# Altium footprint library EceParts.PcbLib: 92 footprints (part 4 of 6)
Each footprint in its own frame and in the unit in brackets; x right, y up, seen from the top. Pads: shape width x height; smd on the part's side, far side on the other; paste and mask are expansions set on the pad; w line width, h text height; cw(c..) or ccw(c..) is an arc to the next point about the centre after c.
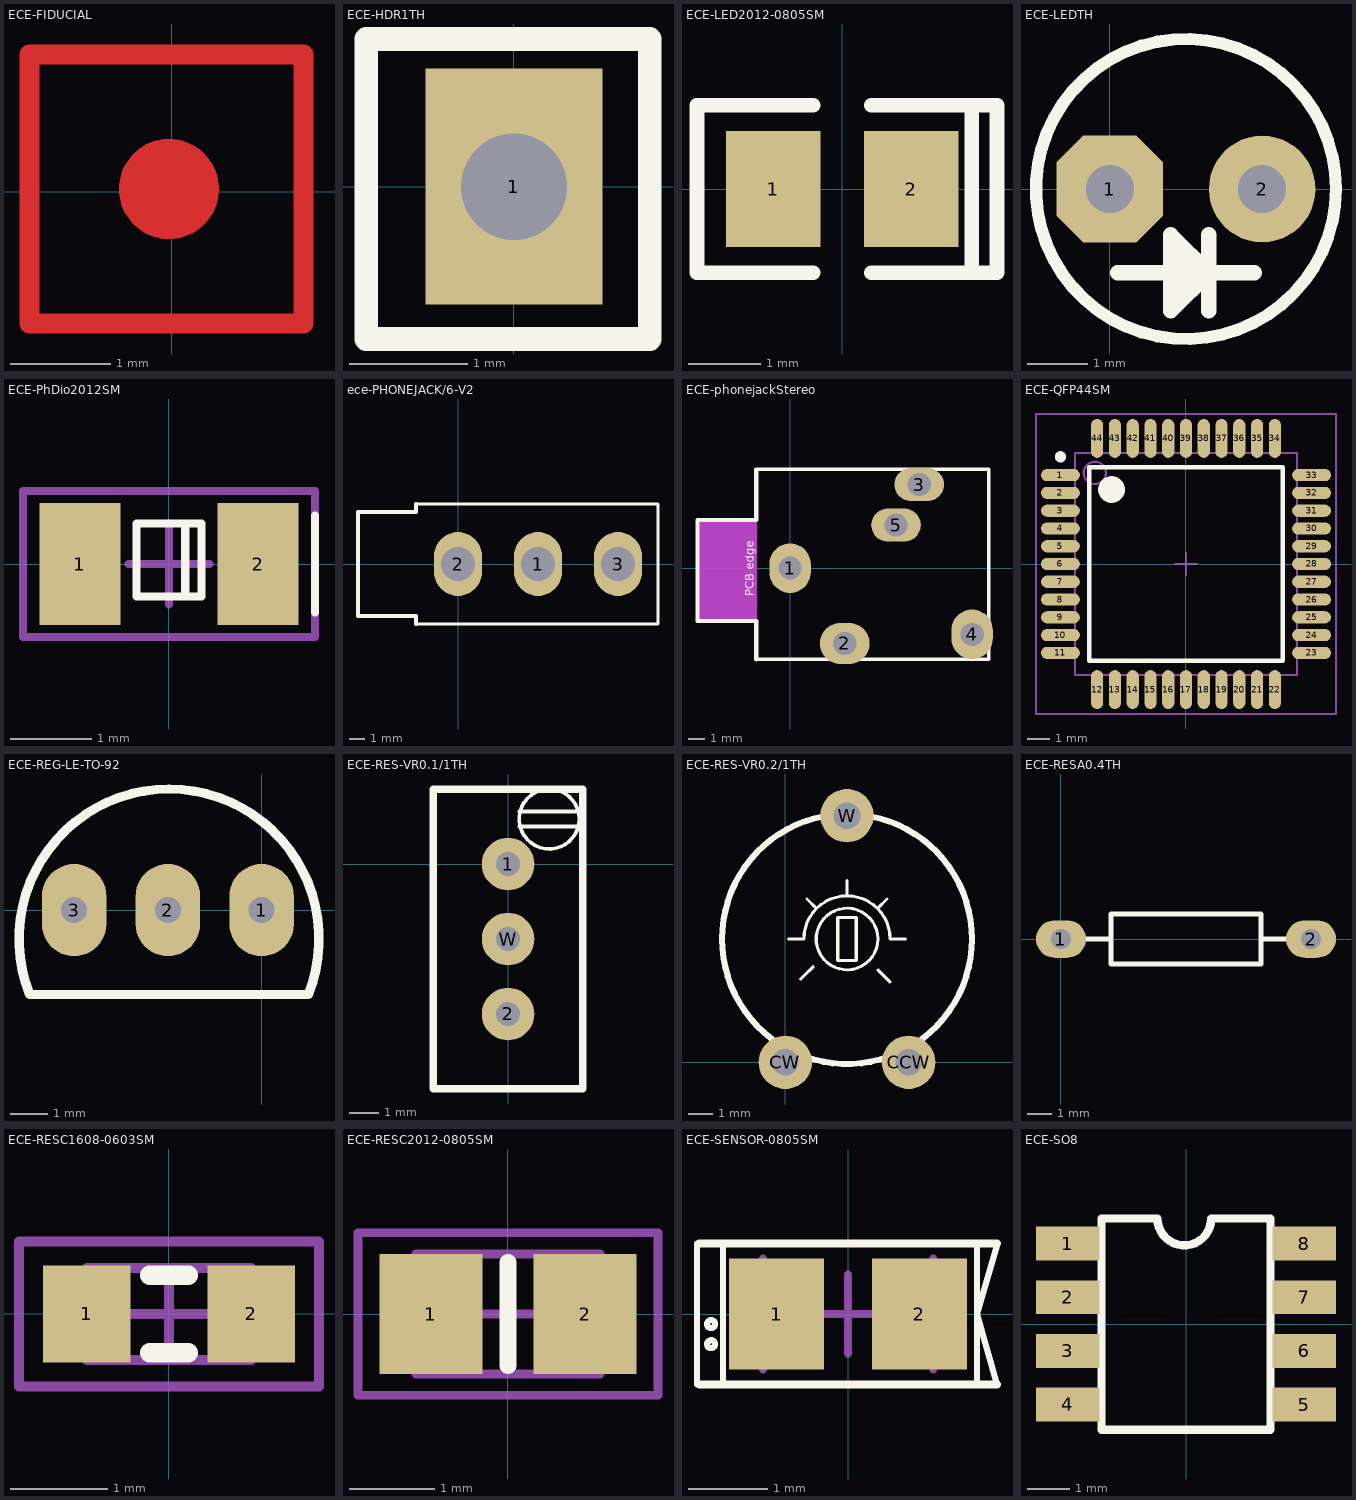
[diagram p3: the footprints below, top view; thin cyan lines are the x and y axes]

## ECE-FIDUCIAL [mil] "Fiducial Marker"
Top Layer:
  circle w19.68: c-1,1 r9.84
  lines w7.87: 51,-52 -56,-52 -56,54 52,54 ; 52,-52 52,53
Top Solder:
  circle w19.68: c-1,1 r9.84
  rectangle: -60.06,-58.06 58.06,60.06

## ECE-HDR1TH [mm] "Test Pin"
height 3
pads (1):
  rect 1.5x2 hole 0.9: 1(0,0)
Top Overlay:
  lines w0.2: -1.25,-1.29 -1.25,1.25 1.15,1.25 1.15,-1.29 -1.25,-1.29

## ECE-LED2012-0805SM [mm] "RED AS AlGaAs SMD LED, Body; 2mm x 1.25 mm (LxW)"
height 1
pads (2):
  rect 1.3x1.6 smd: 1(-0.95,0) 2(0.95,0)
Top Overlay:
  lines w0.2: -0.4,-1.15 -2,-1.15 -2,1.15 -0.4,1.15 ; 0.4,-1.15 2.13,-1.15 2.13,1.15 0.4,1.15 ; 1.78,-1.15 1.78,1.15

## ECE-LEDTH [mil] "LED through hole"
pads (2):
  oct 70x70 hole 31.5: 1(0,0)
  round 70 hole 31.5: 2(100,0)
Top Overlay:
  circle w8: c50,0 r98.42
  lines w10: 5,-55 95,-55 ; 49.69,-70.31 49.69,-40.31 50,-40 ; 65,-80 65,-30 ; 40,-80 65,-55 40,-30 40,-80

## ECE-PhDio2012SM [mm] "Chip Diode, Body 2.0x1.3mm, IPC Medium Density"
height 0.017
pads (2):
  rect 1x1.5 smd: 1(-1.1,0) 2(1.1,0)
Top Overlay:
  lines w0.1: 0.2,-0.4 0.2,0.5 ; 1.8,-0.6 1.8,0.6 ; -0.4,-0.4 -0.4,0.5 0.4,0.5 0.4,-0.4 -0.4,-0.4
Mechanical 13:
  lines w0.1: 0.875,-0.7 0.875,0.7
Mechanical 15:
  lines w0.1: -0.5,0 0.5,0 ; 0,-0.5 0,0.5 ; -1.8,-0.9 -1.8,0.9 1.8,0.9 1.8,-0.9 -1.8,-0.9

## ece-PHONEJACK/6-V2 [mil]
pads (3):
  oval 120x160 hole 85: 1(200,0) 2(0,0) 3(400,0)
Top Overlay:
  lines w7.87: -105,-150 500,-150 500,150 -105,150
  lines w10: -105,-150 -105,-130 -250,-130 -250,130 -105,130 -105,150

## ECE-phonejackStereo [mm]
pads (5):
  oval 2.5x3 hole 1.4: 1(0,0) 4(11,-4)
  oval 3x2.5 hole 1.4: 2(3.3,-4.55)
  oval 3x2 hole 1.4: 3(7.8,5.05) 5(6.4,2.6)
Top Overlay:
  lines w0.2: -2.05,-5.5 12,-5.5 12,5.966 -2.05,5.966
  lines w0.254: -2.05,-5.5 -2.05,-3.192 ; -2.05,-3.2 -5.6,-3.2 -5.6,2.9 -2.05,2.9 ; -2.05,2.908 -2.05,5.966
  text "PCB edge" at -2.2,-1.7 h0.5
Mechanical 15 keep-out:
  region: -5.625,2.9 -2.025,2.9 -2.025,-3.2 -5.625,-3.2

## ECE-QFP44SM [mm] "Thin QFP, 44-Leads, Body 10x10mm, Pitch 0.8mm, IPC Medium Density"
height 1.2
pads (44):
  oval 1.75x0.55 smd: 1(-5.65,4) 2(-5.65,3.2) 3(-5.65,2.4) 4(-5.65,1.6) 5(-5.65,0.8) 6(-5.65,0) 7(-5.65,-0.8) 8(-5.65,-1.6) 9(-5.65,-2.4) 10(-5.65,-3.2) 11(-5.65,-4) 23(5.65,-4) 24(5.65,-3.2) 25(5.65,-2.4) 26(5.65,-1.6) 27(5.65,-0.8) 28(5.65,0) 29(5.65,0.8) 30(5.65,1.6) 31(5.65,2.4) 32(5.65,3.2) 33(5.65,4)
  oval 0.55x1.75 smd: 12(-4,-5.65) 13(-3.2,-5.65) 14(-2.4,-5.65) 15(-1.6,-5.65) 16(-0.8,-5.65) 17(0,-5.65) 18(0.8,-5.65) 19(1.6,-5.65) 20(2.4,-5.65) 21(3.2,-5.65) 22(4,-5.65) 34(4,5.65) 35(3.2,5.65) 36(2.4,5.65) 37(1.6,5.65) 38(0.8,5.65) 39(0,5.65) 40(-0.8,5.65) 41(-1.6,5.65) 42(-2.4,5.65) 43(-3.2,5.65) 44(-4,5.65)
Top Overlay:
  circle w0.25: c-5.65,4.825 r0.125
  circle w0.6: c-3.35,3.35 r0.3
  lines w0.2: -4.35,-4.35 -4.35,4.35 4.35,4.35 4.35,-4.35 -4.35,-4.35
Mechanical 13:
  circle w0.1: c-4.1,4.1 r0.5
  lines w0.1: -5,-5 -5,5 5,5 5,-5 -5,-5
Mechanical 15:
  lines w0.1: -0.5,0 0.5,0 ; 0,-0.5 0,0.5 ; -6.75,-6.75 -6.75,6.75 6.75,6.75 6.75,-6.75 -6.75,-6.75
3D body: height 1.2, standoff 0, extent -5,-5 5,5

## ECE-REG-LE-TO-92 [mm] "Regulator LE33 and LE50"
pads (3):
  oval 1.75x2.5 hole 0.7: 1(0,0) 2(-2.54,0) 3(-5.08,0)
Top Overlay:
  lines w0.254: -6.286,-2.285 cw(c-2.509,-0.783) 1.267,-2.286 -6.286,-2.285

## ECE-RES-VR0.1/1TH [mil] "Variable Resistor Rectangular"
height 405.51
pads (3):
  round 70 hole 32: 1(0,0) 2(0,-200) W(0,-100)
Top Overlay:
  circle w5: c55,60 r40
  lines w5: 15,50 95,50 ; 15,70 95,70
  lines w10: -100,-300 -100,100 100,100 100,-300 -100,-300

## ECE-RES-VR0.2/1TH [mm] "Variable Resistor Single Turn"
height 5
pads (3):
  round 2.2 hole 1.1: CCW(5.08,0) CW(0,0) W(2.54,10.16)
Top Overlay:
  circle w0.254: c2.54,5.08 r5.15
  circle w0.127: c2.54,5.08 r1.27
  lines w0.127: 0.127,5.08 0.762,5.08 cw(c2.54,5.08) 4.318,5.08 4.953,5.08 ; 0.635,3.429 0.762,3.556 1.143,3.937 ; 0.889,6.731 1.27,6.35 ; 2.54,6.858 2.54,7.493 ; 3.81,3.81 4.318,3.302 ; 3.81,6.35 4.191,6.731 ; 2.159,4.191 2.921,4.191 2.921,5.969 2.159,5.969 2.159,4.191
3D body: height 5.2, standoff -4.5, extent -2.4,-0.5 7.4,10.8

## ECE-RESA0.4TH [mil] "Resistor Axial 10mm"
height 196.85
pads (2):
  oval 80x60 hole 31.5: 1(0.16,0.32) 2(400.16,0.32)
Top Overlay:
  lines w7.87: 40.16,0.32 80.16,0.32 ; 320.16,0.32 360.16,0.32 ; 80.16,-39.69 320.16,-39.69 320.16,40.31 80.16,40.31 80.16,-39.69
3D body: height 95, standoff -78.74, extent -7.08,-47.24 416.54,47.25

## ECE-RESC1608-0603SM [mm] "Chip Resistor, Body 1.6x0.8mm, IPC Medium Density"
height 0.015
pads (2):
  rect 0.9x1 smd: 1(-0.85,0) 2(0.85,0)
Top Overlay:
  lines w0.2: -0.2,-0.4 0.2,-0.4 ; -0.2,0.4 0.2,0.4
Mechanical 13:
  lines w0.1: -0.85,-0.475 -0.85,0.475 0.85,0.475 0.85,-0.475 -0.85,-0.475
Mechanical 15:
  lines w0.1: -0.475,0 0.475,0 ; 0,-0.475 0,0.475 ; -1.55,-0.75 -1.55,0.75 1.55,0.75 1.55,-0.75 -1.55,-0.75
3D body: height 0.6, standoff 0, extent -0.85,-0.475 0.85,0.475

## ECE-RESC2012-0805SM [mm] "Chip Resistor, Body 2.0x1.3mm, IPC Medium Density"
height 0.017
pads (2):
  rect 1.2x1.4 smd: 1(-0.9,0) 2(0.9,0)
Top Overlay:
  lines w0.2: 0,-0.6 0,0.6
Mechanical 13:
  lines w0.1: -1.075,-0.7 1.075,-0.7 1.075,0.7 -1.075,0.7 -1.075,-0.7
Mechanical 15:
  lines w0.1: -0.5,0 0.5,0 ; 0,-0.5 0,0.5 ; -1.75,-0.95 1.75,-0.95 1.75,0.95 -1.75,0.95 -1.75,-0.95
3D body: height 0.4, standoff -0.1, extent -0.9,-0.625 1.1,0.625

## ECE-SENSOR-0805SM [mm] "Chip Sensor, Body 2.0x1.3mm, IPC Medium Density"
height 0.022
pads (2):
  rect 1.2x1.4 smd: 1(-0.9,0) 2(0.9,0)
Top Overlay:
  circle w0.076: c-1.727,-0.381 r0.051
  circle w0.076: c-1.727,-0.127 r0.051
  lines w0.076: -1.905,-0.889 -1.905,0.889 ; -1.575,-0.889 -1.575,0.889 ; 1.626,-0.889 1.626,0.889 ; 1.88,-0.889 1.626,0 1.88,0.864
  lines w0.1: -1.877,-0.889 1.88,-0.889 ; -1.877,0.889 1.88,0.889
Mechanical 13:
  lines w0.1: -1.075,-0.7 -1.075,0.7 ; 1.075,-0.7 1.075,0.7
Mechanical 15:
  lines w0.1: -0.5,0 0.5,0 ; 0,-0.5 0,0.5

## ECE-SO8 [mm] "8-Lead Plastic Small Outline, 1.27mm pitch"
pads (8):
  rect 1.5x0.8 smd: 1(-2.8,1.905) 2(-2.8,0.635) 3(-2.8,-0.635) 4(-2.8,-1.9) 5(2.8,-1.905) 6(2.8,-0.635) 7(2.8,0.635) 8(2.8,1.905)
Top Overlay:
  lines w0.2: -2,-2.5 2,-2.5 2,2.5 0.595,2.5 cw(c-0.04,2.5) -0.675,2.5 -2,2.5 -2,-2.5
3D body: height 1.7, standoff 0, extent -3,-2.45 3,2.45